# Altium footprint library mainpcb.PcbLib: 14 footprints
Each footprint in its own frame and in the unit in brackets; x right, y up, seen from the top. Pads: shape width x height; smd on the part's side, far side on the other; paste and mask are expansions set on the pad; w line width, h text height; cw(c..) or ccw(c..) is an arc to the next point about the centre after c.
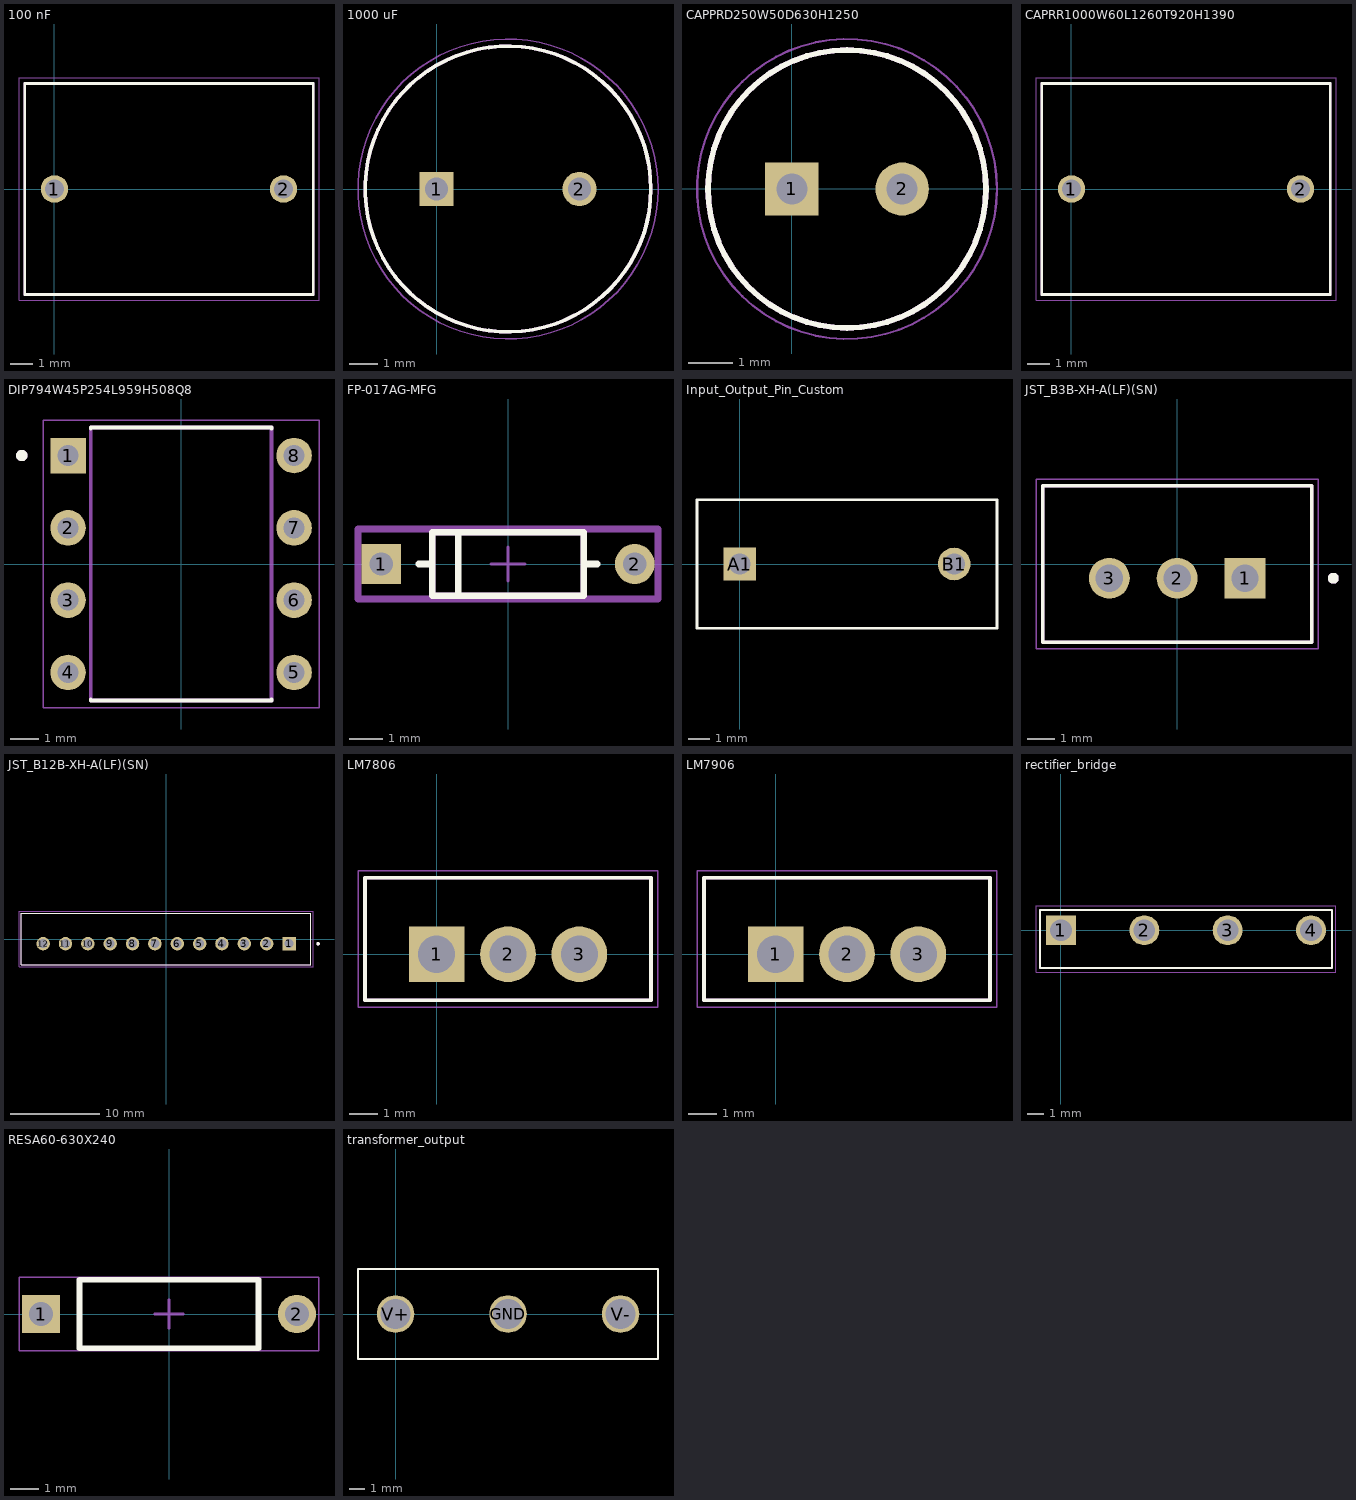
[diagram p0: the footprints below, top view; thin cyan lines are the x and y axes]

## 100 nF [mm]
pads (2):
  round 1.2 hole 0.85: 1(0,0) 2(10,0)
Top Overlay:
  lines w0.127: -1.3,-4.6 -1.3,4.6 11.3,4.6 11.3,-4.6 -1.3,-4.6
Top 3D Body:
  lines w0.127: -1.3,-4.6 11.3,-4.6 11.3,4.6 -1.3,4.6 -1.3,-4.6
Top Courtyard:
  lines w0.05: -1.55,-4.85 11.55,-4.85 11.55,4.85 -1.55,4.85 -1.55,-4.85

## 1000 uF [mm]
pads (2):
  rect 1.2x1.2 / inner round 1.2 / far side rect 1.2x1.2 hole 0.8 mask+0.102: 1(0,0)
  round 1.2 hole 0.8 mask+0.102: 2(5,0)
Top Overlay:
  circle w0.127: c2.5,0 r5
Top 3D Body:
  circle w0.127: c2.5,0 r5
Top Courtyard:
  circle w0.05: c2.5,0 r5.25

## CAPPRD250W50D630H1250 [mm]
pads (2):
  rect 1.208x1.208 / inner round 1.208 / far side rect 1.208x1.208 hole 0.7: 1(0,0)
  round 1.208 hole 0.7: 2(2.5,0)
Top Overlay:
  circle w0.127: c1.25,0 r3.15
Top 3D Body:
  circle w0.127: c1.25,0 r3.15
Top Courtyard:
  circle w0.05: c1.25,0 r3.4
3D body "step_temp.STEP": height 12.5, standoff -19, extent -1.9,-3.147 4.4,3.147

## CAPRR1000W60L1260T920H1390 [mm]
pads (2):
  round 1.2 hole 0.85: 1(0,0) 2(10,0)
Top Overlay:
  lines w0.127: -1.3,-4.6 -1.3,4.6 11.3,4.6 11.3,-4.6 -1.3,-4.6
Top 3D Body:
  lines w0.127: -1.3,-4.6 11.3,-4.6 11.3,4.6 -1.3,4.6 -1.3,-4.6
Top Courtyard:
  lines w0.05: -1.55,-4.85 11.55,-4.85 11.55,4.85 -1.55,4.85 -1.55,-4.85

## DIP794W45P254L959H508Q8 [mm]
height 5.08
pads (8):
  rect 1.248x1.248 / inner round 1.248 / far side rect 1.248x1.248 hole 0.74: 1(-3.97,3.81)
  round 1.248 hole 0.74: 2(-3.97,1.27) 3(-3.97,-1.27) 4(-3.97,-3.81) 5(3.97,-3.81) 6(3.97,-1.27) 7(3.97,1.27) 8(3.97,3.81)
Top Overlay:
  circle w0.2: c-5.594,3.81 r0.1
  lines w0.127: -3.175,-4.754 -3.175,-4.795 3.175,-4.795 3.175,-4.754 ; -3.175,4.754 -3.175,4.795 3.175,4.795 3.175,4.754
Top 3D Body:
  circle w0.2: c-5.594,3.81 r0.1
  lines w0.127: -3.175,-4.795 -3.175,4.795 3.175,4.795 3.175,-4.795 -3.175,-4.795
Top Courtyard:
  lines w0.05: -4.844,-5.045 4.844,-5.045 4.844,5.045 -4.844,5.045 -4.844,-5.045
3D body "step_temp.STEP": height 5.33, standoff -3.81, extent -5.46,-4.635 5.46,4.635

## FP-017AG-MFG [mm]
pads (2):
  rect 1.2x1.2 hole 0.7 paste-2539.97 mask+0: 1(-3.813,0)
  round 1.2 hole 0.7 paste-2539.97 mask+0: 2(3.813,0)
Top Overlay:
  lines w0.2: -2.68,0 -2.28,0 ; -1.5,-0.855 -1.5,0.855 ; 2.28,0 2.68,0 ; -2.28,-0.955 -2.28,0.955 2.28,0.955 2.28,-0.955 -2.28,-0.955
Top Assembly:
  lines w0.2: -4.513,-1.055 -4.513,1.055 4.513,1.055 4.513,-1.055 -4.513,-1.055
  text ".Designator" at 0.776,0.055 h1
Top 3D Body:
  lines w0.2: -2.28,-0.955 -2.28,0.955 2.28,0.955 2.28,-0.955 -2.28,-0.955
Top Courtyard:
  lines w0.2: -4.513,-1.055 -4.513,1.055 4.513,1.055 4.513,-1.055 -4.513,-1.055
Top Component Center:
  lines w0.1: -0.5,0 0.5,0 ; 0,-0.5 0,0.5
3D body "Diode_ON_Semiconductor_1N914B_eec.STEP": height 0.25, standoff 0, extent -4.513,-1.055 4.513,1.055

## Input_Output_Pin_Custom [mil]
pads (2):
  rect 60x60 hole 39.37: A1(0,0)
  round 60 hole 39.37: B1(393.7,0)
Top Overlay:
  lines w5: -78.74,-118.11 472.44,-118.11 472.44,118.11 -78.74,118.11 -78.74,-118.11

## JST_B3B-XH-A(LF)(SN) [mm]
height 7
pads (3):
  rect 1.508x1.508 / inner round 1.508 / far side rect 1.508x1.508 hole 1: 1(2.5,-0.525)
  round 1.508 hole 1: 2(0,-0.525) 3(-2.5,-0.525)
Top Overlay:
  circle w0.2: c5.75,-0.525 r0.1
  lines w0.127: -4.95,-2.875 -4.95,2.875 4.95,2.875 4.95,-2.875 -4.95,-2.875
Top 3D Body:
  circle w0.2: c5.75,-0.525 r0.1
  lines w0.127: -4.95,-2.875 -4.95,2.875 4.95,2.875 4.95,-2.875 -4.95,-2.875
Top Courtyard:
  lines w0.05: -5.2,-3.125 -5.2,3.125 5.2,3.125 5.2,-3.125 -5.2,-3.125
3D body "step_temp.STEP": height 7, standoff -3.4, extent -4.95,-2.875 4.95,2.875

## JST_B12B-XH-A(LF)(SN) [mm]
height 7
pads (12):
  rect 1.508x1.508 / inner round 1.508 / far side rect 1.508x1.508 hole 1: 1(13.75,-0.525)
  round 1.508 hole 1: 2(11.25,-0.525) 3(8.75,-0.525) 4(6.25,-0.525) 5(3.75,-0.525) 6(1.25,-0.525) 7(-1.25,-0.525) 8(-3.75,-0.525) 9(-6.25,-0.525) 10(-8.75,-0.525) 11(-11.25,-0.525) 12(-13.75,-0.525)
Top Overlay:
  circle w0.2: c17,-0.525 r0.1
  lines w0.127: -16.2,-2.875 16.2,-2.875 16.2,2.875 -16.2,2.875 -16.2,-2.875
Top 3D Body:
  circle w0.2: c17,-0.525 r0.1
  lines w0.127: -16.2,-2.875 16.2,-2.875 16.2,2.875 -16.2,2.875 -16.2,-2.875
Top Courtyard:
  lines w0.05: -16.45,-3.125 16.45,-3.125 16.45,3.125 -16.45,3.125 -16.45,-3.125
3D body "step_temp.STEP": height 7, standoff -3.4, extent -16.2,-2.875 16.2,2.875

## LM7806 [mm]
pads (3):
  rect 1.98x1.98 / inner round 1.98 / far side rect 1.98x1.98 hole 1.32: 1(0,0)
  round 1.98 hole 1.32: 2(2.535,0) 3(5.07,0)
Top Overlay:
  lines w0.127: -2.545,-1.635 -2.545,2.715 7.615,2.715 7.615,-1.635 -2.545,-1.635
Top 3D Body:
  lines w0.127: -2.545,-1.635 -2.545,2.715 7.615,2.715 7.615,-1.635 -2.545,-1.635
Top Courtyard:
  lines w0.05: -2.795,-1.885 -2.795,2.965 7.865,2.965 7.865,-1.885 -2.795,-1.885
3D body "step_temp.STEP": height 19.22, standoff -9.68, extent -2.585,-1.71 7.615,2.79

## LM7906 [mm]
pads (3):
  rect 1.98x1.98 / inner round 1.98 / far side rect 1.98x1.98 hole 1.32: 1(0,0)
  round 1.98 hole 1.32: 2(2.535,0) 3(5.07,0)
Top Overlay:
  lines w0.127: -2.545,-1.635 7.615,-1.635 7.615,2.715 -2.545,2.715 -2.545,-1.635
Top 3D Body:
  lines w0.127: -2.545,-1.635 7.615,-1.635 7.615,2.715 -2.545,2.715 -2.545,-1.635
Top Courtyard:
  lines w0.05: -2.795,-1.885 7.865,-1.885 7.865,2.965 -2.795,2.965 -2.795,-1.885
3D body "step_temp.STEP": height 19.22, standoff -9.68, extent -2.585,-1.71 7.615,2.79

## rectifier_bridge [mm]
pads (4):
  rect 1.8x1.8 / inner round 1.8 / far side rect 1.8x1.8 hole 1.3: 1(0,0)
  round 1.8 hole 1.3: 2(5,0) 3(10,0) 4(15,0)
Top Overlay:
  lines w0.127: -1.25,-2.275 -1.25,1.225 16.25,1.225 16.25,-2.275 -1.25,-2.275
Top 3D Body:
  lines w0.127: 13.25,-2.275 -1.25,-2.275 -1.25,1.225 13.25,1.225
Top Courtyard:
  lines w0.05: -1.5,-2.525 -1.5,1.475 16.5,1.475 16.5,-2.525 -1.5,-2.525
3D body "step_temp.STEP": height 12.7, standoff -12.2, extent 0.243,-2.286 14.743,1.214

## RESA60-630X240 [mm] "Axial Resistor, 2-Leads, Dia 2.4mm, Body Length 6.3mm"
height 2.6
pads (2):
  rect 1.35x1.35 hole 0.85: 1(-4.5,0)
  round 1.35 hole 0.85: 2(4.5,0)
Top Overlay:
  lines w0.2: -3.15,-1.2 3.15,-1.2 3.15,1.2 -3.15,1.2 -3.15,-1.2
Top 3D Body:
  lines w0.1: -3.15,-1.2 -3.15,1.2 3.15,1.2 3.15,-1.2 -3.15,-1.2
Top Courtyard:
  lines w0.05: -5.275,-1.3 5.275,-1.3 5.275,1.3 -5.275,1.3 -5.275,-1.3
  lines w0.1: -0.5,0 0.5,0 ; 0,-0.5 0,0.5
3D body: height 2.4, standoff 0, extent -3.15,-1.2 3.15,1.2

## transformer_output [mm]
pads (3):
  round 2.5 hole 2: GND(7.5,0) V+(0,0) V-(15,0)
Top Overlay:
  lines w0.127: -2.5,-3 17.5,-3 17.5,3 -2.5,3 -2.5,-3